# Altium footprint library PcbLib1.PcbLib: 32 footprints (part 1 of 2)
Each footprint in its own frame and in the unit in brackets; x right, y up, seen from the top. Pads: shape width x height; smd on the part's side, far side on the other; paste and mask are expansions set on the pad; w line width, h text height; cw(c..) or ccw(c..) is an arc to the next point about the centre after c.
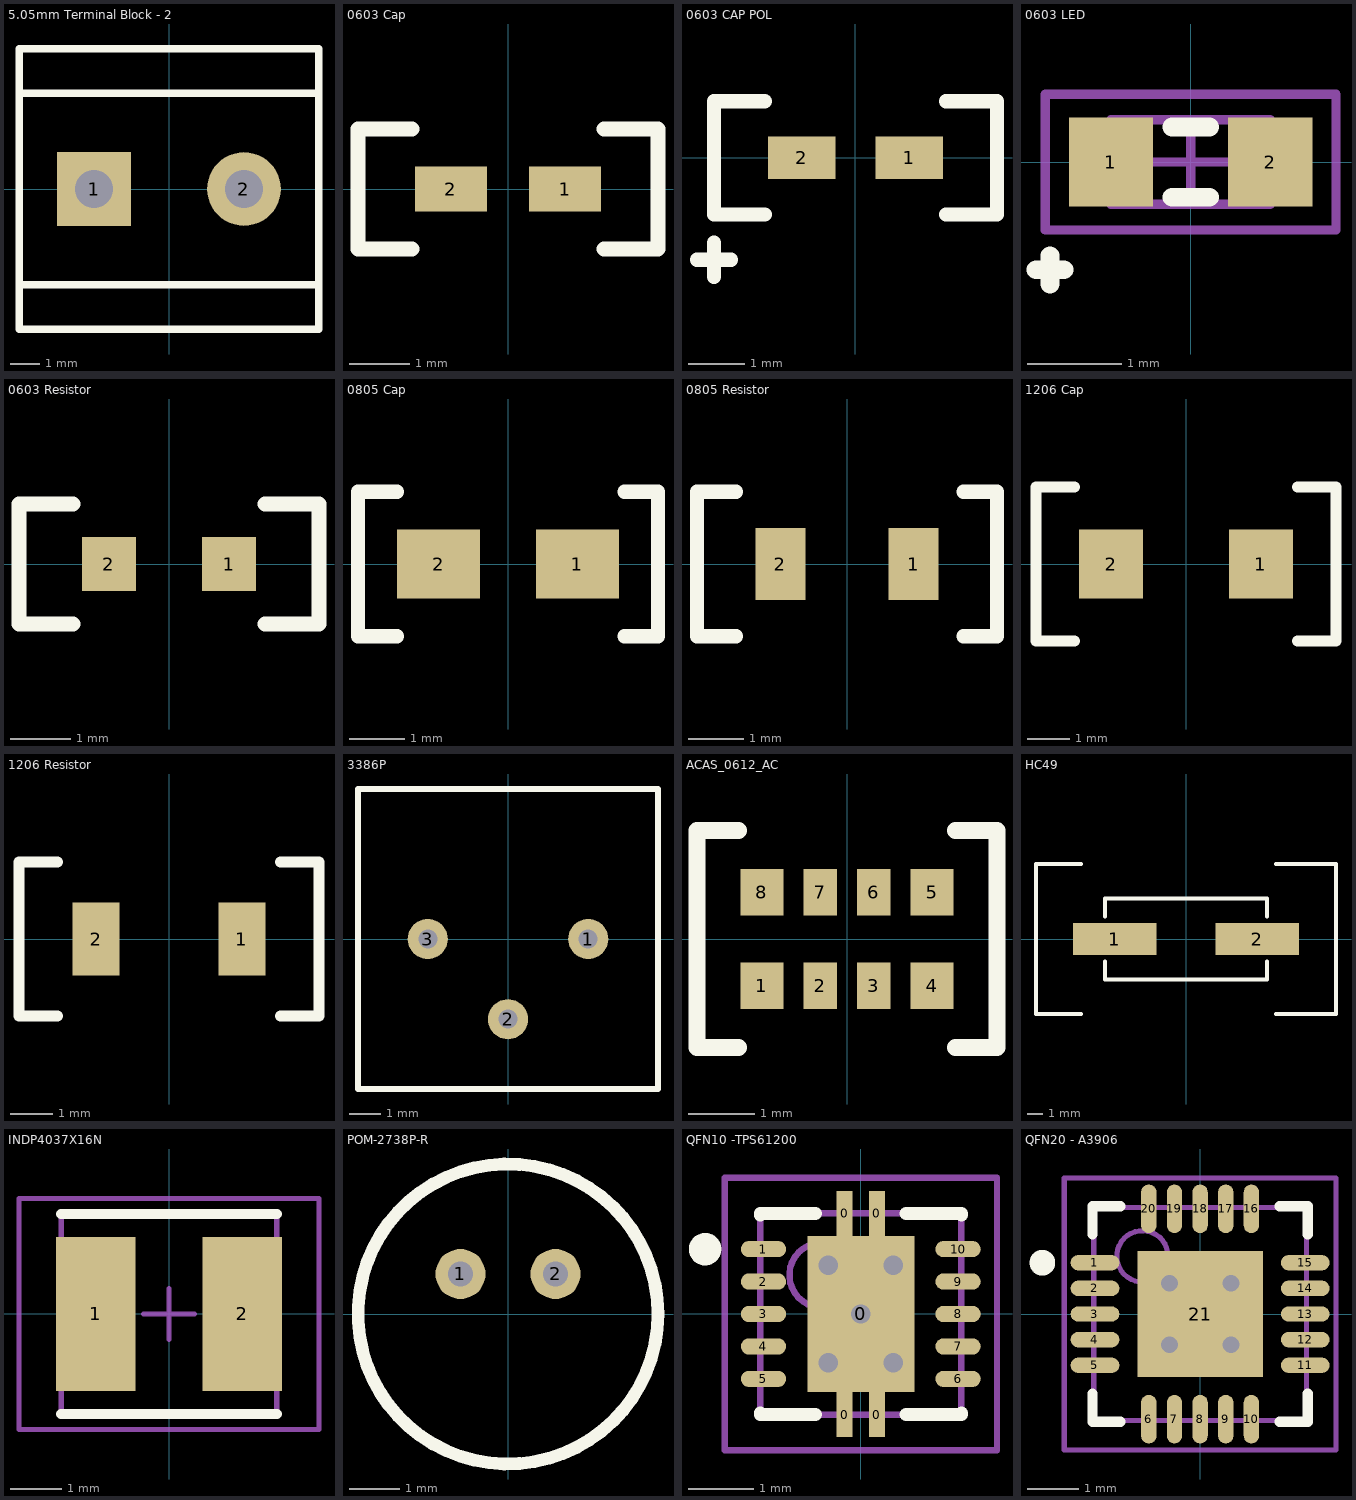
[diagram p0: the footprints below, top view; thin cyan lines are the x and y axes]

## 5.05mm Terminal Block - 2 [mm]
pads (2):
  rect 2.5x2.5 hole 1.3: 1(-2.54,0)
  round 2.5 hole 1.3: 2(2.54,0)
Top Overlay:
  lines w0.254: -5.08,-3.25 5.08,-3.25 ; -5.08,3.25 5.08,3.25 ; -5.08,-4.75 -5.08,0 -5.08,4.75 5.08,4.75 5.08,0 5.08,-4.75 -5.08,-4.75

## 0603 Cap [mm] "0603 Capacitor"
pads (2):
  rect 1.2x0.75 smd: 1(0.95,0) 2(-0.95,0)
Top Overlay:
  lines w0.254: -1.6,-1 -2.5,-1 -2.5,1 -1.6,1 ; 1.6,-1 2.5,-1 2.5,1 1.6,1
3D body: height 0.9, standoff 0, extent -0.75,-0.375 0.75,0.375

## 0603 CAP POL [mm] "Polarised Capacitor, 0603"
pads (2):
  rect 1.2x0.75 smd: 1(0.95,0) 2(-0.95,0)
Top Overlay:
  lines w0.254: -2.8,-1.8 -2.2,-1.8 ; -2.5,-2.1 -2.5,-1.5 ; -1.6,-1 -2.5,-1 -2.5,1 -1.6,1 ; 1.6,-1 2.5,-1 2.5,1 1.6,1
3D body: height 0.9, standoff 0, extent -0.75,-0.375 0.75,0.375

## 0603 LED [mm] "Chip LED, 2-Leads, Body 1.6x0.8mm, IPC Medium Density"
height 0.4
pads (2):
  rect 0.9x0.95 smd: 1(-0.85,0) 2(0.85,0)
Top Overlay:
  lines w0.2: -1.65,-1.15 -1.35,-1.15 ; -1.5,-1.3 -1.5,-1 ; -0.2,-0.375 0.2,-0.375 ; -0.2,0.375 0.2,0.375
Mechanical 13:
  lines w0.1: -0.85,-0.45 -0.85,0.45 0.85,0.45 0.85,-0.45 -0.85,-0.45
Mechanical 15:
  lines w0.1: -0.45,0 0.45,0 ; 0,-0.45 0,0.45 ; -1.55,-0.725 -1.55,0.725 1.55,0.725 1.55,-0.725 -1.55,-0.725
3D body: height 0.4, standoff 0, extent -0.85,-0.45 0.85,0.45

## 0603 Resistor [mm] "0603 Resistor"
pads (2):
  rect 0.9x0.9 smd: 1(1,0) 2(-1,0)
Top Overlay:
  lines w0.254: -1.6,-1 -2.5,-1 -2.5,1 -1.6,1 ; 1.6,-1 2.5,-1 2.5,1 1.6,1
3D body: height 0.55, standoff 0, extent -0.8,-0.425 0.8,0.425

## 0805 Cap [mm] "0805 Capacitor"
pads (2):
  rect 1.5x1.25 smd: 1(1.25,0) 2(-1.25,0)
Top Overlay:
  lines w0.254: -2,-1.3 -2.7,-1.3 -2.7,1.3 -2,1.3 ; 2.1,-1.3 2.7,-1.3 2.7,1.3 2.1,1.3
3D body: height 0.9, standoff 0, extent -1,-0.625 1.1,0.625

## 0805 Resistor [mm] "0805 Resistor"
pads (2):
  rect 0.9x1.3 smd: 1(1.2,0) 2(-1.2,0)
Top Overlay:
  lines w0.254: -2,-1.3 -2.7,-1.3 -2.7,1.3 -2,1.3 ; 2.1,-1.3 2.7,-1.3 2.7,1.3 2.1,1.3
3D body: height 0.6, standoff 0, extent -1,-0.625 1.1,0.625

## 1206 Cap [mm] "1206 Capacitor"
pads (2):
  rect 1.5x1.6 smd: 1(1.75,0) 2(-1.75,0)
Top Overlay:
  lines w0.254: -2.6,-1.8 -3.5,-1.8 -3.5,1.8 -2.6,1.8 ; 2.6,-1.8 3.5,-1.8 3.5,1.8 2.6,1.8
3D body: height 1.8, standoff 0, extent -1.6,-0.8 1.6,0.8

## 1206 Resistor [mm] "1206 Resistor"
pads (2):
  rect 1.1x1.7 smd: 1(1.7,0) 2(-1.7,0)
Top Overlay:
  lines w0.254: -2.6,-1.8 -3.5,-1.8 -3.5,1.8 -2.6,1.8 ; 2.6,-1.8 3.5,-1.8 3.5,1.8 2.6,1.8
3D body: height 0.65, standoff 0, extent -1.6,-0.8 1.6,0.8

## 3386P [mm] "Trim Pot Bournes"
pads (3):
  round 1.27 hole 0.6: 1(2.54,0) 2(0,-2.54) 3(-2.54,0)
Top Overlay:
  lines w0.2: -4.75,-4.75 4.75,-4.75 4.75,4.75 -4.75,4.75 -4.75,-4.75
3D body: height 4.83, standoff 0, extent -4.75,-4.75 4.75,4.75

## ACAS_0612_AC [mm] "Resistor network"
pads (8):
  rect 0.65x0.7 smd: 1(-1.275,-0.7) 4(1.275,-0.7) 5(1.275,0.7) 8(-1.275,0.7)
  rect 0.5x0.7 smd: 2(-0.4,-0.7) 3(0.4,-0.7) 6(0.4,0.7) 7(-0.4,0.7)
Top Overlay:
  lines w0.254: -1.625,-1.625 -2.25,-1.625 -2.25,1.625 -1.625,1.625 ; 1.625,-1.625 2.25,-1.625 2.25,1.625 1.625,1.625

## HC49 [mm] "Crystal Oscilator"
pads (2):
  rect 5.6x2.1 smd: 1(-4.75,0) 2(4.75,0)
Top Overlay:
  lines w0.254: -7,-5 -10,-5 -10,5 -7,5 ; -5.4,-1.5 -5.4,-2.7 5.4,-2.7 5.4,-1.5 ; -5.4,1.5 -5.4,2.7 5.4,2.7 5.4,1.5 ; 6,-5 10,-5 10,5 6,5
3D body: height 1, standoff 0.1, extent -5.4,-2.7 5.4,2.7
3D body: height 4.2, standoff 0, extent 1.016,-1.996 5,1.996
3D body: height 4.2, standoff 0, extent -4.984,-1.996 -1,1.996
3D body: height 4.2, standoff 0, extent -2.992,-1.996 3.008,1.996

## INDP4037X16N [mm] "Precision Wire Wound Inductor, 2-Leads, Body 4.0x3.7mm, IPC Medium Density"
height 1.65
pads (2):
  rect 1.55x3 smd: 1(-1.425,0) 2(1.425,0)
Top Overlay:
  lines w0.2: -2.1,-1.95 2.1,-1.95 ; -2.1,1.95 2.1,1.95
Mechanical 13:
  lines w0.1: -2.1,-1.95 2.1,-1.95 2.1,1.95 -2.1,1.95 -2.1,-1.95
Mechanical 15:
  lines w0.1: -0.5,0 0.5,0 ; 0,-0.5 0,0.5 ; -2.925,-2.25 2.925,-2.25 2.925,2.25 -2.925,2.25 -2.925,-2.25
3D body: height 1.65, standoff 0, extent -2.1,-1.95 2.1,1.95

## POM-2738P-R [mm]
pads (2):
  round 1 hole 0.5: 1(-0.95,0.8) 2(0.95,0.8)
Top Overlay:
  circle w0.254: c0,0 r3
Bottom Overlay:
  circle w0.254: c0,0 r3
3D body: height 2.6, standoff 0, extent -2.976,-2.994 3,2.994
3D body: height 2.7, standoff 2.6, extent -2.778,-2.794 2.8,2.794

## QFN10 -TPS61200 [mm] "QFN, 14-Leads, Body 3.1x3.1mm (max), Pitch 0.50mm, IPC Medium Density"
height 1
pads (15):
  rect 0.25x0.7 smd: 0(-0.25,-1.55) 0(-0.25,1.55) 0(0.25,-1.55) 0(0.25,1.55)
  rect 1.65x2.4 smd: 0(0,0)
  oval 0.7x0.25 smd: 1(-1.5,1) 2(-1.5,0.5) 3(-1.5,0) 4(-1.5,-0.5) 5(-1.5,-1) 6(1.5,-1) 7(1.5,-0.5) 8(1.5,0) 9(1.5,0.5) 10(1.5,1)
via -0.5,-0.75 diameter 0.5 hole 0.3
via 0.5,-0.75 diameter 0.5 hole 0.3
via 0.5,0.75 diameter 0.5 hole 0.3
via 0,0 diameter 0.5 hole 0.3
via -0.5,0.75 diameter 0.5 hole 0.3
Top Overlay:
  circle w0.25: c-2.4,1 r0.125
  lines w0.2: -1.55,-1.525 -1.55,-1.55 -0.7,-1.55 ; -1.55,1.525 -1.55,1.55 -0.7,1.55 ; 0.7,-1.55 1.55,-1.55 1.55,-1.525 ; 0.7,1.55 1.55,1.55 1.55,1.525
Mechanical 13:
  circle w0.1: c-0.6,0.6 r0.5
  lines w0.1: -1.55,-1.55 1.55,-1.55 1.55,1.55 -1.55,1.55 -1.55,-1.55
Mechanical 15:
  lines w0.1: -0.5,0 0.5,0 ; 0,-0.5 0,0.5 ; -2.1,-2.1 2.1,-2.1 2.1,2.1 -2.1,2.1 -2.1,-2.1
3D body: height 1, standoff 0.01, extent -1.55,-1.55 1.55,1.55

## QFN20 - A3906 [mm] "QFN, 20-Leads, Body 4.2x4.2mm (max), Pitch 0.50mm, IPC Medium Density"
height 0.8
pads (21):
  oval 0.95x0.3 smd mask+0.05: 1(-2.05,1) 2(-2.05,0.5) 3(-2.05,0) 4(-2.05,-0.5) 5(-2.05,-1) 11(2.05,-1) 12(2.05,-0.5) 13(2.05,0) 14(2.05,0.5) 15(2.05,1)
  oval 0.3x0.95 smd mask+0.05: 6(-1,-2.05) 7(-0.5,-2.05) 8(0,-2.05) 9(0.5,-2.05) 10(1,-2.05) 16(1,2.05) 17(0.5,2.05) 18(0,2.05) 19(-0.5,2.05) 20(-1,2.05)
  rect 2.45x2.45 smd: 21(0,0)
via -0.6,0.6 diameter 0.66 hole 0.33
via 0.6,0.6 diameter 0.66 hole 0.33
via -0.6,-0.6 diameter 0.66 hole 0.33
via 0.6,-0.6 diameter 0.66 hole 0.33
Top Overlay:
  circle w0.25: c-3.075,1 r0.125
  lines w0.2: -2.1,-1.55 -2.1,-2.1 -1.55,-2.1 ; -2.1,1.55 -2.1,2.1 -1.55,2.1 ; 1.55,-2.1 2.1,-2.1 2.1,-1.55 ; 1.55,2.1 2.1,2.1 2.1,1.55
Mechanical 13:
  circle w0.1: c-1.125,1.125 r0.5
  lines w0.1: -2.075,-2.075 -2.075,2.075 2.075,2.075 2.075,-2.075 -2.075,-2.075
Mechanical 15:
  lines w0.1: -0.5,0 0.5,0 ; 0,-0.5 0,0.5 ; -2.65,-2.65 -2.65,2.65 2.65,2.65 2.65,-2.65 -2.65,-2.65
3D body: height 0.8, standoff 0.01, extent -2.075,-2.075 2.075,2.075